# Altium footprint library SOT-23.PcbLib: 1 footprints
Each footprint in its own frame and in the unit in brackets; x right, y up, seen from the top. Pads: shape width x height; smd on the part's side, far side on the other; paste and mask are expansions set on the pad; w line width, h text height; cw(c..) or ccw(c..) is an arc to the next point about the centre after c.
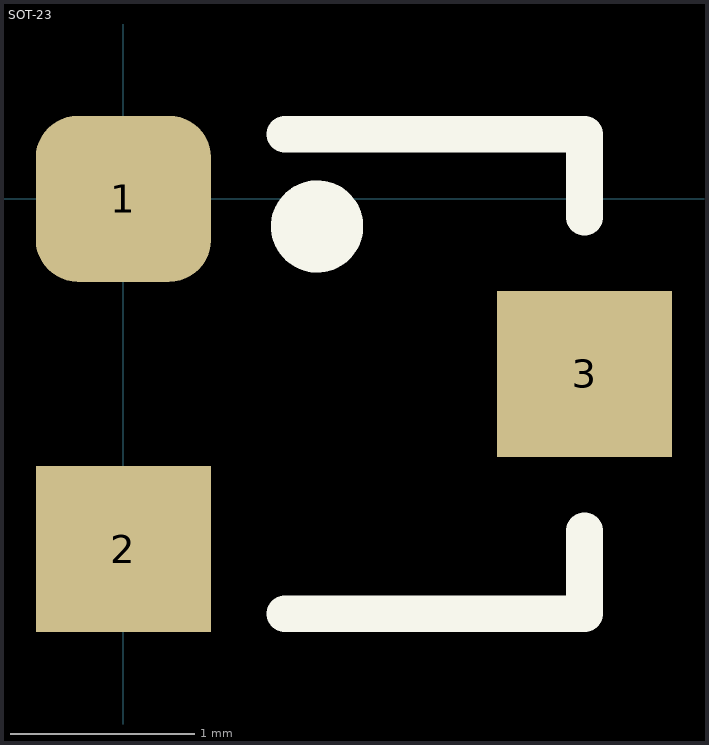
[diagram p0: the footprint, top view; thin cyan lines are the x and y axes]

## SOT-23 [mm]
pads (3):
  rrect50% 0.95x0.9 smd: 1(0,0)
  rect 0.95x0.9 smd: 2(0,-1.9) 3(2.5,-0.95)
Top Overlay:
  circle w0.25: c1.05,-0.15 r0.125
  lines w0.2: 0.875,-2.25 2.5,-2.25 2.5,-1.8 ; 0.875,0.35 2.5,0.35 2.5,-0.1
3D body "SOT23.STEP": height 1.08, standoff -0.02, extent 0,-2.45 2.5,0.55